# Altium schematic symbol library SCH - MCU - STM32 - ST MICROELECTRONICS STM32F334K(4-6-8)TX LQFP32.SchLib: 1 symbol
Pins are listed as number, name and electrical type; pins without a type are passive.

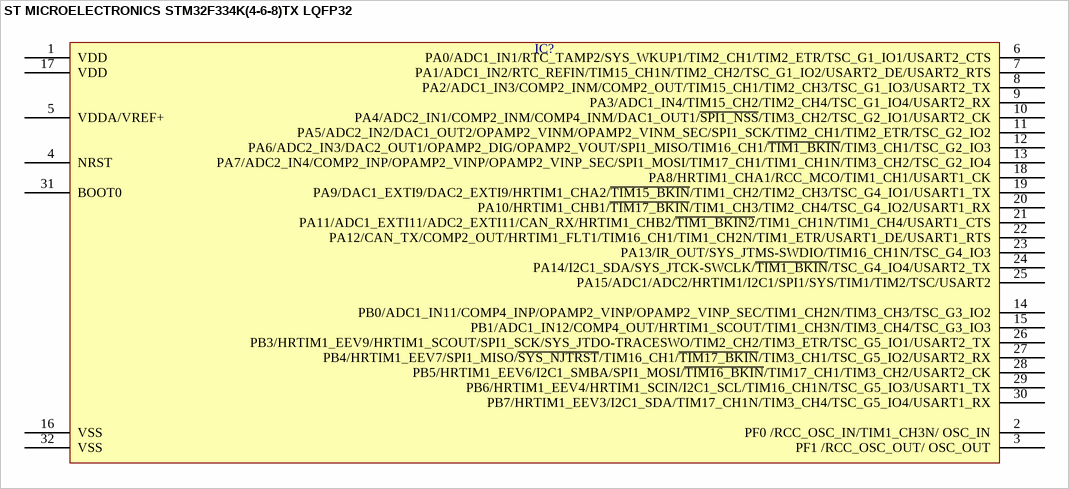
[diagram p0: symbol ST MICROELECTRONICS STM32F334K(4-6-8)TX LQFP32]

## ST MICROELECTRONICS STM32F334K(4-6-8)TX LQFP32
designator IC?  (value not drawn)
pins: 1 VDD, 2 PF0 /RCC_OSC_IN/TIM1_CH3N/ OSC_IN, 3 PF1 /RCC_OSC_OUT/ OSC_OUT, 4 NRST, 5 VDDA/VREF+, 6 PA0/ADC1_IN1/RTC_TAMP2/SYS_WKUP1/TIM2_CH1/TIM2_ETR/TSC_G1_IO1/USART2_CTS, 7 PA1/ADC1_IN2/RTC_REFIN/TIM15_CH1N/TIM2_CH2/TSC_G1_IO2/USART2_DE/USART2_RTS, 8 PA2/ADC1_IN3/COMP2_INM/COMP2_OUT/TIM15_CH1/TIM2_CH3/TSC_G1_IO3/USART2_TX, 9 PA3/ADC1_IN4/TIM15_CH2/TIM2_CH4/TSC_G1_IO4/USART2_RX, 10 PA4/ADC2_IN1/COMP2_INM/COMP4_INM/DAC1_OUT1/~{SPI1_NSS}/TIM3_CH2/TSC_G2_IO1/USART2_CK, 11 PA5/ADC2_IN2/DAC1_OUT2/OPAMP2_VINM/OPAMP2_VINM_SEC/SPI1_SCK/TIM2_CH1/TIM2_ETR/TSC_G2_IO2, 12 PA6/ADC2_IN3/DAC2_OUT1/OPAMP2_DIG/OPAMP2_VOUT/SPI1_MISO/TIM16_CH1/~{TIM1_BKIN}/TIM3_CH1/TSC_G2_IO3, 13 PA7/ADC2_IN4/COMP2_INP/OPAMP2_VINP/OPAMP2_VINP_SEC/SPI1_MOSI/TIM17_CH1/TIM1_CH1N/TIM3_CH2/TSC_G2_IO4, 14 PB0/ADC1_IN11/COMP4_INP/OPAMP2_VINP/OPAMP2_VINP_SEC/TIM1_CH2N/TIM3_CH3/TSC_G3_IO2, 15 PB1/ADC1_IN12/COMP4_OUT/HRTIM1_SCOUT/TIM1_CH3N/TIM3_CH4/TSC_G3_IO3, 16 VSS, 17 VDD, 18 PA8/HRTIM1_CHA1/RCC_MCO/TIM1_CH1/USART1_CK, 19 PA9/DAC1_EXTI9/DAC2_EXTI9/HRTIM1_CHA2/~{TIM15_BKIN}/TIM1_CH2/TIM2_CH3/TSC_G4_IO1/USART1_TX, 20 PA10/HRTIM1_CHB1/~{TIM17_BKIN}/TIM1_CH3/TIM2_CH4/TSC_G4_IO2/USART1_RX, 21 PA11/ADC1_EXTI11/ADC2_EXTI11/CAN_RX/HRTIM1_CHB2/~{TIM1_BKIN2}/TIM1_CH1N/TIM1_CH4/USART1_CTS, 22 PA12/CAN_TX/COMP2_OUT/HRTIM1_FLT1/TIM16_CH1/TIM1_CH2N/TIM1_ETR/USART1_DE/USART1_RTS, 23 PA13/IR_OUT/SYS_JTMS-SWDIO/TIM16_CH1N/TSC_G4_IO3, 24 PA14/I2C1_SDA/SYS_JTCK-SWCLK/~{TIM1_BKIN}/TSC_G4_IO4/USART2_TX, 25 PA15/ADC1/ADC2/HRTIM1/I2C1/SPI1/SYS/TIM1/TIM2/TSC/USART2, 26 PB3/HRTIM1_EEV9/HRTIM1_SCOUT/SPI1_SCK/SYS_JTDO-TRACESWO/TIM2_CH2/TIM3_ETR/TSC_G5_IO1/USART2_TX, 27 PB4/HRTIM1_EEV7/SPI1_MISO/~{SYS_NJTRST}/TIM16_CH1/~{TIM17_BKIN}/TIM3_CH1/TSC_G5_IO2/USART2_RX, 28 PB5/HRTIM1_EEV6/I2C1_SMBA/SPI1_MOSI/~{TIM16_BKIN}/TIM17_CH1/TIM3_CH2/USART2_CK, 29 PB6/HRTIM1_EEV4/HRTIM1_SCIN/I2C1_SCL/TIM16_CH1N/TSC_G5_IO3/USART1_TX, 30 PB7/HRTIM1_EEV3/I2C1_SDA/TIM17_CH1N/TIM3_CH4/TSC_G5_IO4/USART1_RX, 31 BOOT0, 32 VSS